# EAGLE library part NIXIE (library mylib)
IN-16 Nixie Tube
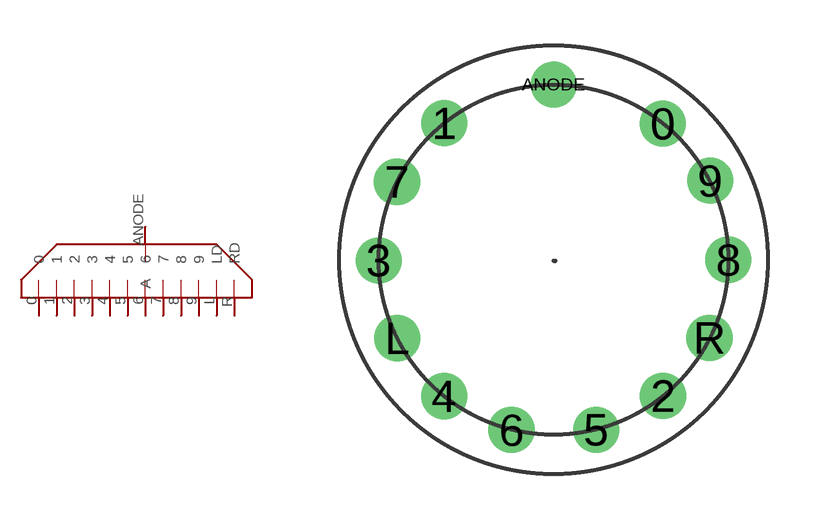
[diagram p0: symbol with the pads of NIXIE; footprint NIXIE]

Designator prefix -

## NIXIE  [NIXIE]
0  0
1  1
2  2
3  3
4  4
5  5
6  6
7  7
8  8
9  9
ANODE  A
L  LD
R  RD

## Footprint NIXIE (pad centres in mm)
drill 1 round: 0 3.571,4.455; 1 -3.568,4.469; 2 3.58,-4.46; 3 -5.71,-0.024; 4 -3.578,-4.464; 5 1.4,-5.56; 6 -1.373,-5.57; 7 -5.116,2.549; 8 5.719,0; 9 5.122,2.587; ANODE 0.003,5.733; L -5.106,-2.567; R 5.102,-2.555